# Altium footprint library Inductor_SMD.PcbLib: 259 footprints (part 7 of 17)
Each footprint in its own frame and in the unit in brackets; x right, y up, seen from the top. Pads: shape width x height; smd on the part's side, far side on the other; paste and mask are expansions set on the pad; w line width, h text height; cw(c..) or ccw(c..) is an arc to the next point about the centre after c.
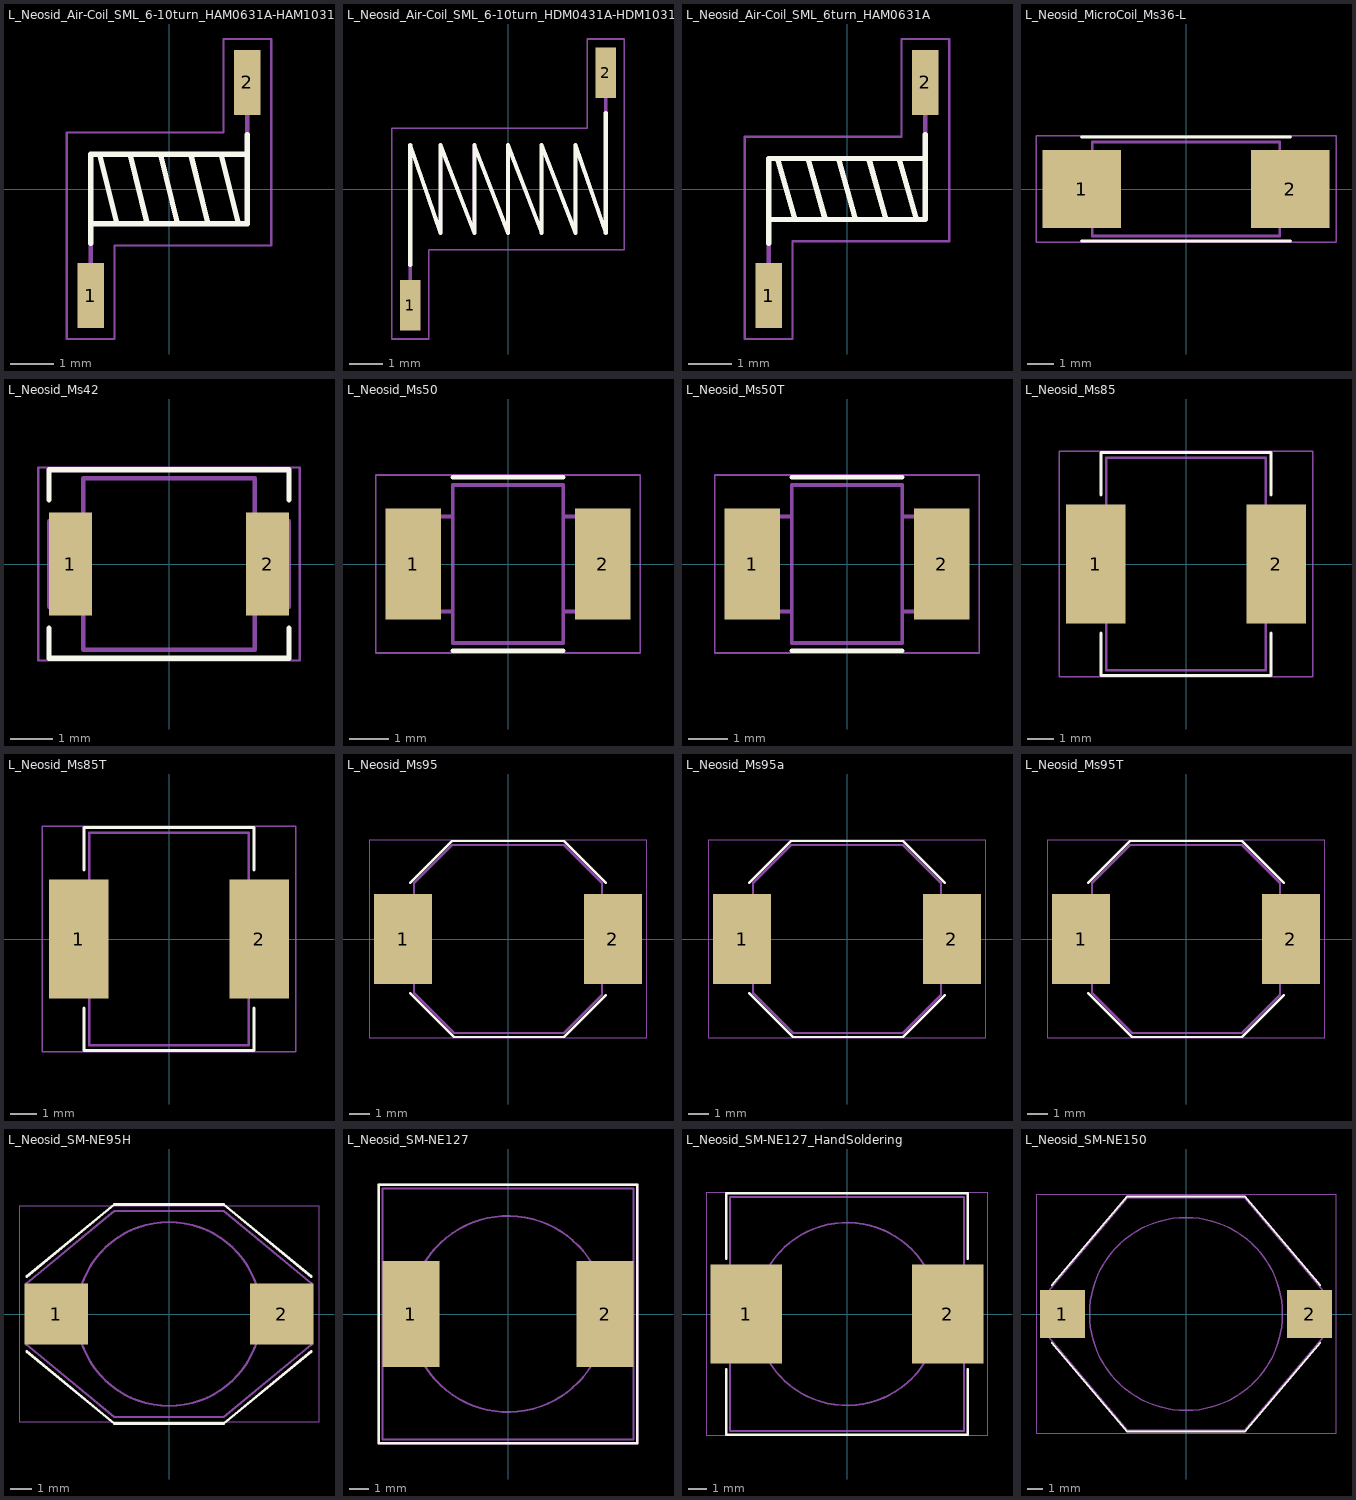
[diagram p6: the footprints below, top view; thin cyan lines are the x and y axes]

## L_Neosid_Air-Coil_SML_6-10turn_HAM0631A-HAM1031A [mm]
pads (2):
  rect 0.6x1.5 smd: 1(-1.8,-2.45) 2(1.8,2.45)
F.SilkS:
  lines w0.12: -1.8,-1.25 -1.8,0.8 1.8,0.8 ; -1.8,-0.8 1.8,-0.8 1.8,1.25 ; -1.6,0.8 -1.2,-0.8 ; -0.9,0.8 -0.5,-0.8 ; -0.2,0.8 0.2,-0.8 ; 0.5,0.8 0.9,-0.8 ; 1.2,0.8 1.6,-0.8
F.CrtYd:
  lines w0.05: -2.35,-3.45 -2.35,1.3 1.25,1.3 1.25,3.45 2.35,3.45 2.35,-1.3 -1.25,-1.3 -1.25,-3.45 -2.35,-3.45
F.Fab:
  lines w0.1: -1.8,-2.5 -1.8,0.8 1.8,0.8 ; -1.8,-0.8 1.8,-0.8 1.8,2.5
  text "'.Designator'" at -3.237,-0.672 h0.8

## L_Neosid_Air-Coil_SML_6-10turn_HDM0431A-HDM1031A [mm]
pads (2):
  rect 0.6x1.5 smd: 1(-2.9,-3.45) 2(2.9,3.45)
F.SilkS:
  lines w0.12: -2.9,-2.25 -2.9,1.3 -2,-1.3 -2,1.3 -1,-1.3 -1,1.3 0,-1.3 0,1.3 1,-1.3 1,1.3 2,-1.3 2,1.3 2.9,-1.3 2.9,2.25
F.CrtYd:
  lines w0.05: -3.45,-4.45 -2.35,-4.45 -2.35,-1.8 3.45,-1.8 3.45,4.45 2.35,4.45 2.35,1.8 -3.45,1.8 -3.45,-4.45
F.Fab:
  lines w0.1: -2.9,-3.5 -2.9,1.3 -2,-1.3 -2,1.3 -1,-1.3 -1,1.3 0,-1.3 0,1.3 1,-1.3 1,1.3 2,-1.3 2,1.3 2.9,-1.3 2.9,3.7
  text "'.Designator'" at -4.047,-0.74 h1

## L_Neosid_Air-Coil_SML_6turn_HAM0631A [mm]
pads (2):
  rect 0.6x1.5 smd: 1(-1.8,-2.45) 2(1.8,2.45)
F.SilkS:
  lines w0.12: -1.8,-1.25 -1.8,0.7 1.8,0.7 ; -1.8,-0.7 1.8,-0.7 1.8,1.25 ; -1.6,0.7 -1.2,-0.7 ; -0.9,0.7 -0.5,-0.7 ; -0.2,0.7 0.2,-0.7 ; 0.5,0.7 0.9,-0.7 ; 1.2,0.7 1.6,-0.7
F.CrtYd:
  lines w0.05: -2.35,-3.45 -2.35,1.2 1.25,1.2 1.25,3.45 2.35,3.45 2.35,-1.2 -1.25,-1.2 -1.25,-3.45 -2.35,-3.45
F.Fab:
  lines w0.1: -1.8,-2.5 -1.8,0.7 1.8,0.7 ; -1.8,-0.7 1.8,-0.7 1.8,2.6
  text "'.Designator'" at -3.237,-0.622 h0.8

## L_Neosid_MicroCoil_Ms36-L [mm]
pads (2):
  rect 3x3 smd: 1(-4,0) 2(4,0)
F.SilkS:
  lines w0.12: -4,-2 4,-2 ; -4,2 4,2
F.CrtYd:
  lines w0.05: -5.75,-2.05 5.75,-2.05 5.75,2.05 -5.75,2.05 -5.75,-2.05
F.Fab:
  lines w0.1: 3.9,-0.8 3.6,-0.8 3.6,-1.8 -3.6,-1.8 -3.6,-0.8 -4,-0.8 -4,0.8 -3.6,0.8 -3.6,1.8 3.6,1.8 3.6,0.8 4,0.8 4,-0.8
  text "'.Designator'" at -4.047,-0.84 h1

## L_Neosid_Ms42 [mm]
pads (2):
  rect 1x2.4 smd: 1(-2.3,0) 2(2.3,0)
F.SilkS:
  lines w0.12: -2.8,-1.5 -2.8,-2.2 2.8,-2.2 2.8,-1.5 ; -2.8,1.5 -2.8,2.2 2.8,2.2 2.8,1.5
F.CrtYd:
  lines w0.05: -3.05,-2.25 -3.05,2.25 3.05,2.25 3.05,-2.25 -3.05,-2.25
F.Fab:
  lines w0.1: -2,-1 -2.8,-1 -2.8,1 -2,1 ; 2,-1 2.8,-1 2.8,1 2,1 ; -2,-2 2,-2 2,2 -2,2 -2,-2
  text "'.Designator'" at -4.047,-0.84 h1

## L_Neosid_Ms50 [mm]
pads (2):
  rect 1.4x2.8 smd: 1(-2.4,0) 2(2.4,0)
F.SilkS:
  lines w0.12: -1.4,-2.2 1.4,-2.2 ; -1.4,2.2 1.4,2.2
F.CrtYd:
  lines w0.05: -3.35,-2.25 -3.35,2.25 3.35,2.25 3.35,-2.25 -3.35,-2.25
F.Fab:
  lines w0.1: -1.4,-1.2 -2.4,-1.2 -2.4,1.2 -1.4,1.2 ; 1.4,-1.2 2.4,-1.2 2.4,1.2 1.4,1.2 ; -1.4,-2 1.4,-2 1.4,2 -1.4,2 -1.4,-2
  text "'.Designator'" at 0.702,-3.267 h0.8

## L_Neosid_Ms50T [mm]
pads (2):
  rect 1.4x2.8 smd: 1(-2.4,0) 2(2.4,0)
F.SilkS:
  lines w0.12: -1.4,-2.2 1.4,-2.2 ; -1.4,2.2 1.4,2.2
F.CrtYd:
  lines w0.05: -3.35,-2.25 3.35,-2.25 3.35,2.25 -3.35,2.25 -3.35,-2.25
F.Fab:
  lines w0.1: -1.4,-1.2 -2.4,-1.2 -2.4,1.2 -1.4,1.2 ; 1.4,-1.2 2.4,-1.2 2.4,1.2 1.4,1.2 ; -1.4,-2 -1.4,2 1.4,2 1.4,-2 -1.4,-2
  text "'.Designator'" at 0.702,-3.267 h0.8

## L_Neosid_Ms85 [mm]
pads (2):
  rect 2.25x4.5 smd: 1(-3.4,0) 2(3.4,0)
F.SilkS:
  lines w0.12: -3.2,-2.6 -3.2,-4.2 3.2,-4.2 3.2,-2.6 ; -3.2,2.6 -3.2,4.2 3.2,4.2 3.2,2.6
F.CrtYd:
  lines w0.05: -4.78,-4.25 4.78,-4.25 4.78,4.25 -4.78,4.25 -4.78,-4.25
F.Fab:
  lines w0.1: -3,-1.8 -4.3,-1.8 -4.3,1.8 -3,1.8 ; 3,-1.8 4.3,-1.8 4.3,1.8 3,1.8 ; -3,-4 3,-4 3,4 -3,4 -3,-4
  text "'.Designator'" at -4.047,-0.84 h1

## L_Neosid_Ms85T [mm]
pads (2):
  rect 2.25x4.5 smd: 1(-3.4,0) 2(3.4,0)
F.SilkS:
  lines w0.12: -3.2,-2.6 -3.2,-4.2 3.2,-4.2 3.2,-2.6 ; -3.2,2.6 -3.2,4.2 3.2,4.2 3.2,2.6
F.CrtYd:
  lines w0.05: -4.78,-4.25 -4.78,4.25 4.78,4.25 4.78,-4.25 -4.78,-4.25
F.Fab:
  lines w0.1: -3,-1.8 -4.3,-1.8 -4.3,1.8 -3,1.8 ; 3,-1.8 4.3,-1.8 4.3,1.8 3,1.8 ; -3,-4 3,-4 3,4 -3,4 -3,-4
  text "'.Designator'" at -4.047,-0.84 h1

## L_Neosid_Ms95 [mm]
pads (2):
  rect 2.9x4.5 smd: 1(-5.25,0) 2(5.25,0)
F.SilkS:
  lines w0.12: -4.9,-2.7 -2.7,-4.9 2.8,-4.9 4.9,-2.8 ; -4.9,2.8 -2.8,4.9 2.8,4.9 4.9,2.8
F.CrtYd:
  lines w0.05: -6.95,-4.95 -6.95,4.95 6.95,4.95 6.95,-4.95 -6.95,-4.95
F.Fab:
  lines w0.1: -6.4,-1.5 -4.7,-1.5 -4.7,-2.7 -2.7,-4.7 2.8,-4.7 4.7,-2.8 4.7,-1.5 6.4,-1.5 6.4,1.5 4.7,1.5 4.7,2.8 2.8,4.7 -2.8,4.7 -4.7,2.8 -4.7,1.5 -6.4,1.5 -6.4,-1.5
  text "'.Designator'" at -4.047,-0.84 h1

## L_Neosid_Ms95a [mm]
pads (2):
  rect 2.9x4.5 smd: 1(-5.25,0) 2(5.25,0)
F.SilkS:
  lines w0.12: -4.9,-2.7 -2.7,-4.9 2.8,-4.9 4.9,-2.8 ; -4.9,2.8 -2.8,4.9 2.8,4.9 4.9,2.8
F.CrtYd:
  lines w0.05: -6.95,-4.95 6.95,-4.95 6.95,4.95 -6.95,4.95 -6.95,-4.95
F.Fab:
  lines w0.1: -6.4,-1.5 -4.7,-1.5 -4.7,-2.7 -2.7,-4.7 2.8,-4.7 4.7,-2.8 4.7,-1.5 6.4,-1.5 6.4,1.5 4.7,1.5 4.7,2.8 2.8,4.7 -2.8,4.7 -4.7,2.8 -4.7,1.5 -6.4,1.5 -6.4,-1.5
  text "'.Designator'" at -4.047,-0.84 h1

## L_Neosid_Ms95T [mm]
pads (2):
  rect 2.9x4.5 smd: 1(-5.25,0) 2(5.25,0)
F.SilkS:
  lines w0.12: -4.9,-2.7 -2.7,-4.9 2.8,-4.9 4.9,-2.8 ; -4.9,2.8 -2.8,4.9 2.8,4.9 4.9,2.8
F.CrtYd:
  lines w0.05: -6.95,-4.95 -6.95,4.95 6.95,4.95 6.95,-4.95 -6.95,-4.95
F.Fab:
  lines w0.1: -6.4,-1.5 -6.4,1.5 -4.7,1.5 -4.7,2.8 -2.8,4.7 2.8,4.7 4.7,2.8 4.7,1.5 6.4,1.5 6.4,-1.5 4.7,-1.5 4.7,-2.8 2.8,-4.7 -2.7,-4.7 -4.7,-2.7 -4.7,-1.5 -6.4,-1.5
  text "'.Designator'" at -4.047,-0.84 h1

## L_Neosid_SM-NE95H [mm]
pads (2):
  rect 2.9x2.8 smd: 1(-5.15,0) 2(5.15,0)
F.SilkS:
  lines w0.12: -6.5,-1.7 -2.5,-5 2.5,-5 6.5,-1.7 ; -6.5,1.7 -2.5,5 2.5,5 6.5,1.7
F.CrtYd:
  lines w0.05: -6.85,-4.95 6.85,-4.95 6.85,4.95 -6.85,4.95 -6.85,-4.95
F.Fab:
  circle w0.1: c0,0 r4.2
  lines w0.1: -6.5,-1.4 -2.5,-4.7 2.5,-4.7 6.5,-1.4 6.5,1.4 2.5,4.7 -2.5,4.7 -6.5,1.4 -6.5,-1.4
  text "'.Designator'" at -4.047,-0.84 h1

## L_Neosid_SM-NE127 [mm]
pads (2):
  rect 2.9x5.4 smd: 1(-4.95,0) 2(4.95,0)
F.SilkS:
  lines w0.12: -6.6,-6.6 6.6,-6.6 6.6,6.6 -6.6,6.6 -6.6,-6.6
F.CrtYd:
  lines w0.05: -6.65,-6.65 6.65,-6.65 6.65,6.65 -6.65,6.65 -6.65,-6.65
F.Fab:
  circle w0.1: c0,0 r5
  lines w0.1: -6.4,-6.4 -6.4,6.4 6.4,6.4 6.4,-6.4 -6.4,-6.4
  text "'.Designator'" at -4.047,-0.84 h1

## L_Neosid_SM-NE127_HandSoldering [mm]
pads (2):
  rect 3.9x5.4 smd: 1(-5.5,0) 2(5.5,0)
F.SilkS:
  lines w0.12: -6.6,-3 -6.6,-6.6 6.6,-6.6 6.6,-3 ; -6.6,3 -6.6,6.6 6.6,6.6 6.6,3
F.CrtYd:
  lines w0.05: -7.7,-6.65 -7.7,6.65 7.7,6.65 7.7,-6.65 -7.7,-6.65
F.Fab:
  circle w0.1: c0,0 r5
  lines w0.1: -6.4,-6.4 6.4,-6.4 6.4,6.4 -6.4,6.4 -6.4,-6.4
  text "'.Designator'" at -4.047,-0.84 h1

## L_Neosid_SM-NE150 [mm]
pads (2):
  rect 3x3.2 smd: 1(-8.2,0) 2(8.2,0)
F.SilkS:
  lines w0.12: -8.9,-1.9 -3.9,-7.8 3.9,-7.8 8.9,-1.9 ; -8.9,1.9 -3.9,7.8 3.9,7.8 8.9,1.9
F.CrtYd:
  lines w0.05: -9.95,-7.95 -9.95,7.95 9.95,7.95 9.95,-7.95 -9.95,-7.95
F.Fab:
  circle w0.1: c0,0 r6.4
  lines w0.1: -9.3,-1.3 -9.3,1.3 -3.9,7.7 3.9,7.7 9.3,1.3 9.3,-1.3 3.9,-7.7 -3.9,-7.7 -9.3,-1.3
  text "'.Designator'" at -4.047,-0.84 h1